# EAGLE library part NRF24 (library nrf24)
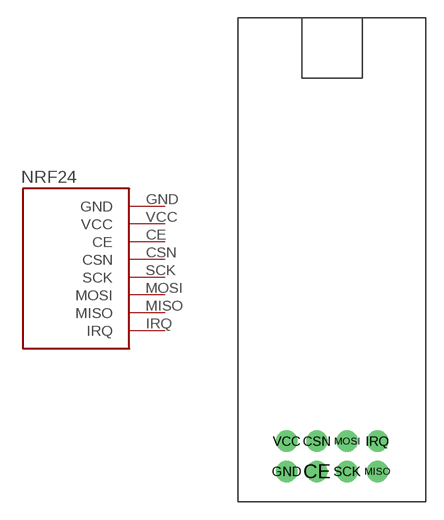
[diagram p0: symbol with the pads of NRF24; footprint NRF24]

Designator prefix -

## NRF24  [NRF24]
CE  CE
CSN  CSN
GND  GND
IRQ  IRQ
MISO  MISO
MOSI  MOSI
SCK  SCK
VCC  VCC

## Footprint NRF24 (pad centres in mm)
drill 0.8 pad 1.8: CE 2.54,-2.54; CSN 2.54,0; GND 0,-2.54; IRQ 7.62,0; MISO 7.62,-2.54; MOSI 5.08,0; SCK 5.08,-2.54; VCC 0,0